# EAGLE library part TPS735*? (library power)
Low-Dropout Linear Regulator, fixed or adjustable
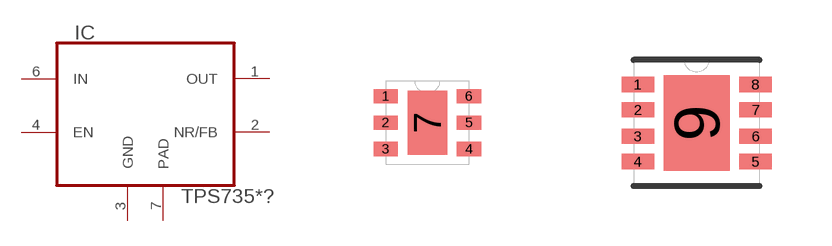
[diagram p3: symbol with the pads of SON65P200X200X80-7N; footprints SON65P200X200X80-7N, SON65P300X300X100-9N]

Designator prefix IC

## TPS73501DRV (OUTPUT_VOLTAGE: ADJ), TPS73533DRV (OUTPUT_VOLTAGE: 3.3V)  [SON65P200X200X80-7N]
1  OUT  pwr
2  NR/FB  in
3  GND  pwr
4  EN  in
6  IN  in
7  PAD  pwr

## TPS73501DRB, TPS73533DRB  [SON65P300X300X100-9N]
1  OUT  pwr
3  NR/FB  in
4  GND  pwr
5  EN  in
8  IN  in
9  PAD  pwr

## Footprint SON65P200X200X80-7N (pad centres in mm)
smd 0.61 x 0.356: 1 -1.041,0.66; 2 -1.041,0; 3 -1.041,-0.66; 4 1.041,-0.66; 5 1.041,0; 6 1.041,0.66
smd 0.991 x 1.6: 7 0,0

## Footprint SON65P300X300X100-9N (pad centres in mm)
smd 0.813 x 0.381: 1 -1.473,0.965; 2 -1.473,0.33; 3 -1.473,-0.33; 4 -1.473,-0.965; 5 1.473,-0.965; 6 1.473,-0.33; 7 1.473,0.33; 8 1.473,0.965
smd 1.651 x 2.388: 9 0,0